# Altium footprint library Switch_TE_FSM4JH_eec_0.PcbLib: 1 footprints
Each footprint in its own frame and in the unit in brackets; x right, y up, seen from the top. Pads: shape width x height; smd on the part's side, far side on the other; paste and mask are expansions set on the pad; w line width, h text height; cw(c..) or ccw(c..) is an arc to the next point about the centre after c.
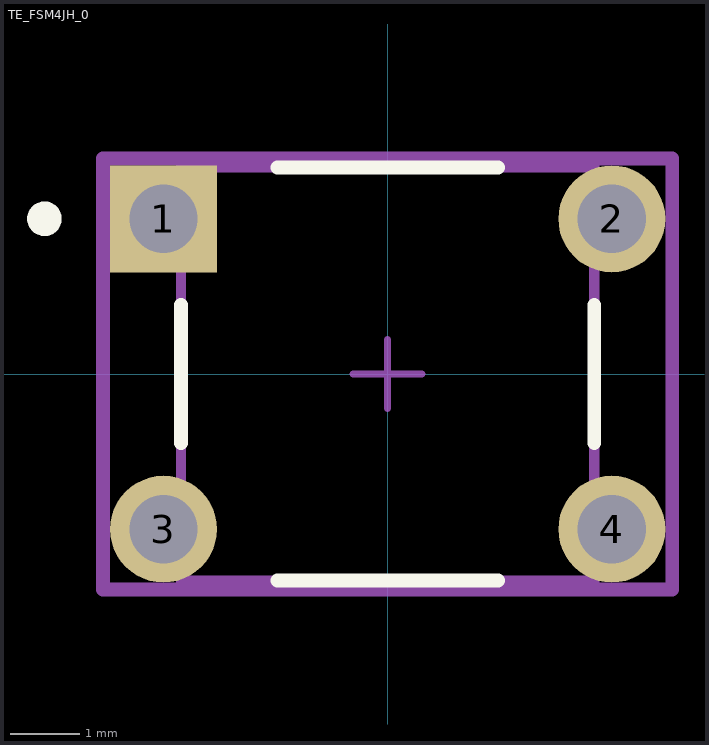
[diagram p0: the footprint, top view; thin cyan lines are the x and y axes]

## TE_FSM4JH_0 [mm]
pads (4):
  rect 1.55x1.55 hole 0.99 paste-1000 mask+0: 1(-3.25,2.25)
  round 1.55 hole 0.99 paste-1000 mask+0: 2(3.25,2.25) 3(-3.25,-2.25) 4(3.25,-2.25)
Top Overlay:
  circle w0.25: c-4.975,2.25 r0.125
  lines w0.2: -2.995,-1 -2.995,1 ; -1.6,-2.995 1.6,-2.995 ; -1.6,2.995 1.6,2.995 ; 2.995,-1 2.995,1
Mechanical 10:
  lines w0.2: -4.125,-3.125 4.125,-3.125 4.125,3.125 -4.125,3.125 -4.125,-3.125
  text ".Designator" at 0,0 h1
Mechanical 12:
  lines w0.15: -2.995,-2.995 2.995,-2.995 2.995,2.995 -2.995,2.995 -2.995,-2.995
Mechanical 15:
  lines w0.1: -0.5,0 0.5,0 ; 0,-0.5 0,0.5
  lines w0.2: -4.125,-3.125 4.125,-3.125 4.125,3.125 -4.125,3.125 -4.125,-3.125
3D body "3dmodel.step": height 0.25, standoff 0, extent -4.125,-3.125 4.125,3.125